# EAGLE library part LM2674 (library Simplex-ICs)
LM2674 power converter
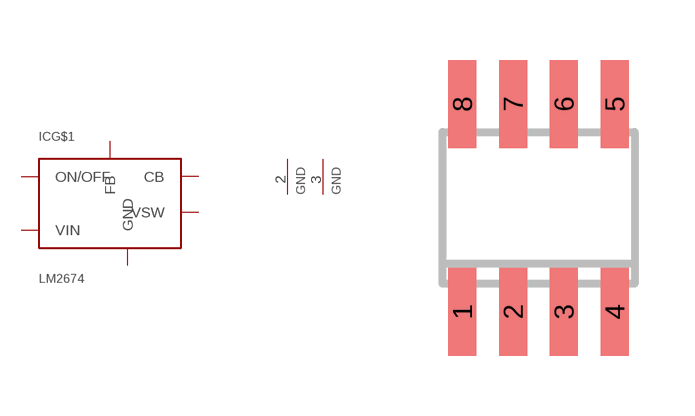
[diagram p10: symbol with the pads of SO-08; footprint SO-08]

Designator prefix IC; gates G$1=LM2674 G$2=GND G$3=GND

## LM2674  [SO-08]
1  G$1:CB
2  G$2:GND  pwr
3  G$3:GND  pwr
4  G$1:FB
5  G$1:ON/OFF
6  G$1:GND
7  G$1:VIN
8  G$1:VSW

## Footprint SO-08 (pad centres in mm)
D (R-PDSO-G8) Plastic Small Outline Package Source: http://focus.ti.com/lit/ds/symlink/sn65als176.pdf
smd 0.7 x 2.2: 1 -1.905,-2.6; 2 -0.635,-2.6; 3 0.635,-2.6; 4 1.905,-2.6; 5 1.905,2.6; 6 0.635,2.6; 7 -0.635,2.6; 8 -1.905,2.6